# EAGLE library part IC_OP-AMP_LM358 (library untitled)
Dual op-amp
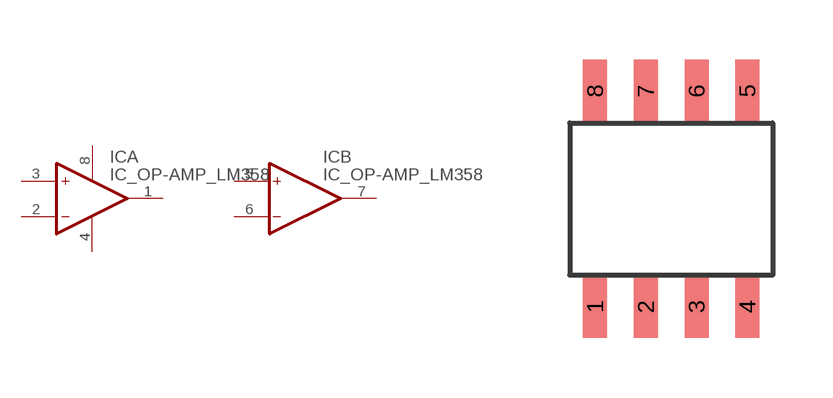
[diagram p17: symbol with the pads of SO-8; footprint SO-8]

Designator prefix IC; gates A=OPAMP_V+- B=OPAMP

## IC_OP-AMP_LM358-SO8  [SO-8]
1  A:OUT  out
2  A:-  in
3  A:+  in
4  A:V-  sup
5  B:+  in
6  B:-  in
7  B:OUT  out
8  A:V+  sup

## Footprint SO-8 (pad centres in mm)
smd 0.6 x 1.55: 1 -1.905,-2.69; 2 -0.635,-2.69; 3 0.635,-2.69; 4 1.905,-2.69; 5 1.905,2.71; 6 0.635,2.71; 7 -0.635,2.71; 8 -1.905,2.71